# Altium footprint library WS-TATV.PcbLib: 24 footprints (part 1 of 2)
Each footprint in its own frame and in the unit in brackets; x right, y up, seen from the top. Pads: shape width x height; smd on the part's side, far side on the other; paste and mask are expansions set on the pad; w line width, h text height; cw(c..) or ccw(c..) is an arc to the next point about the centre after c.
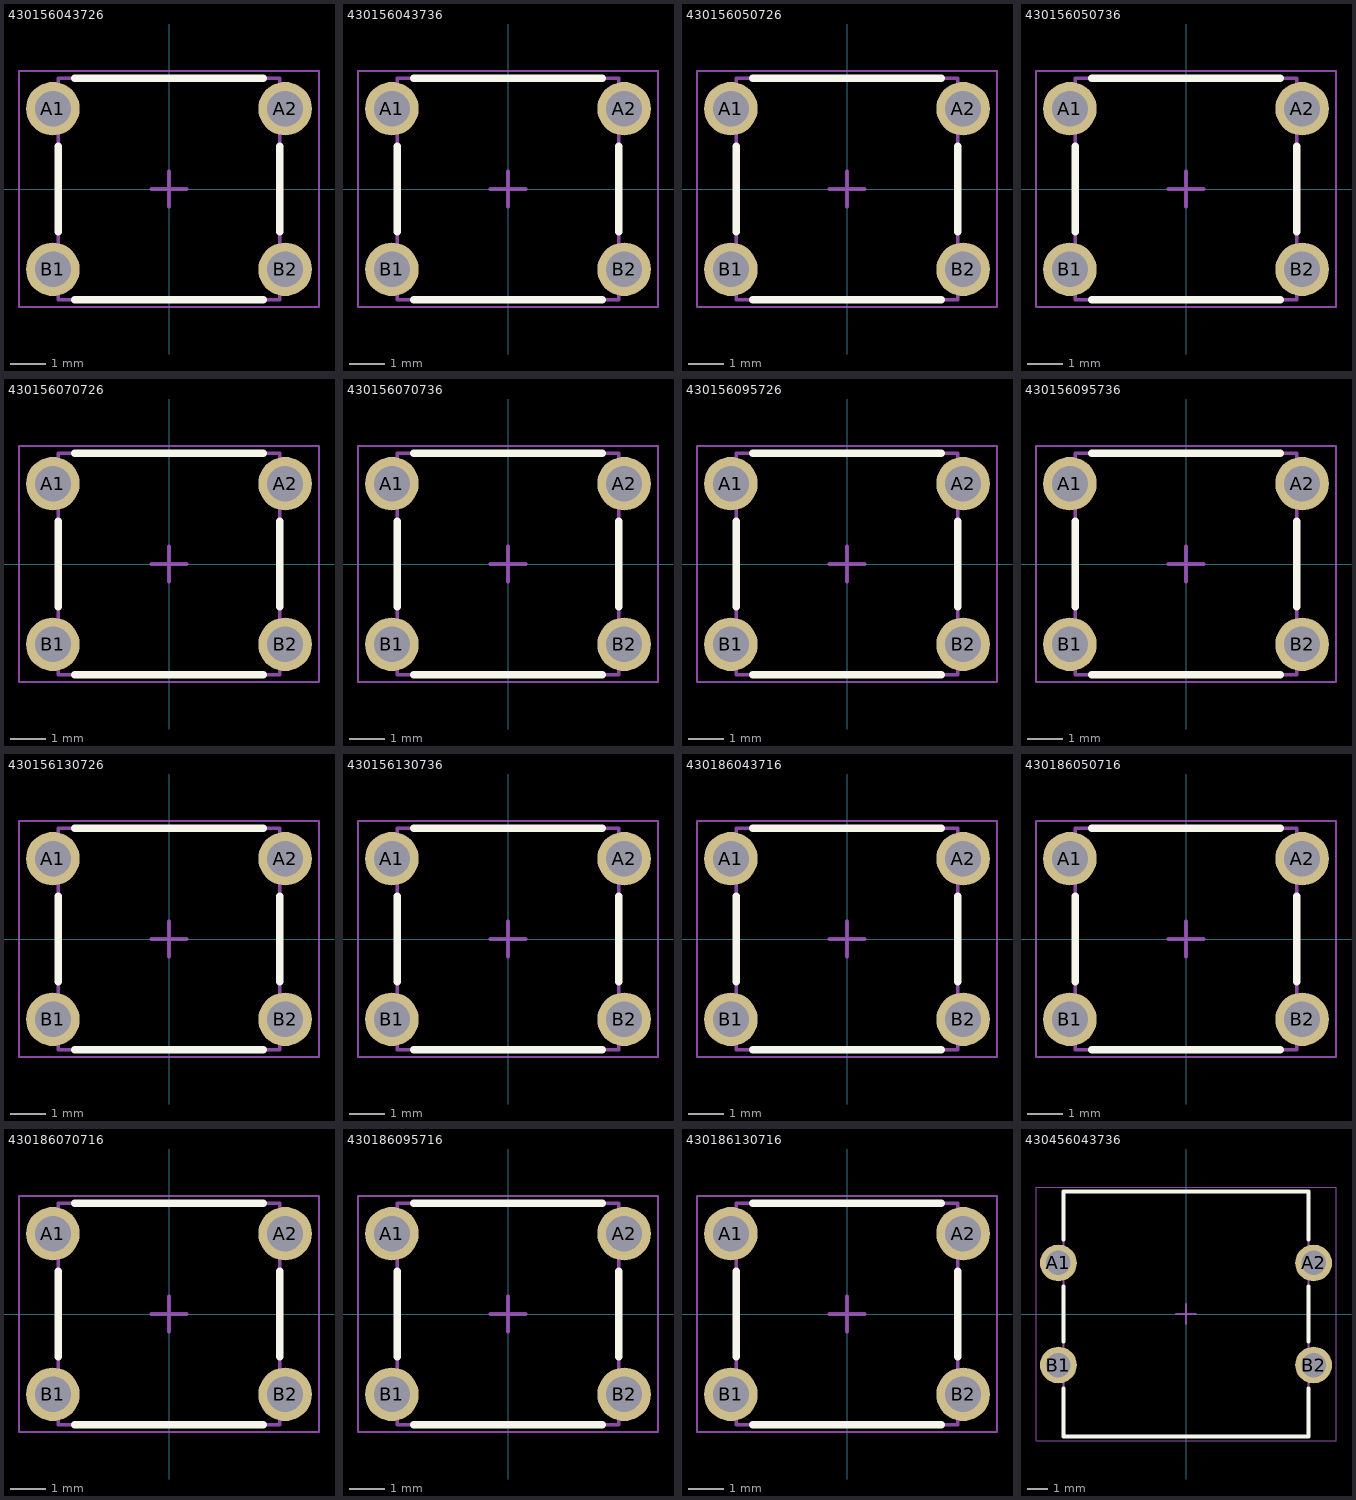
[diagram p0: the footprints below, top view; thin cyan lines are the x and y axes]

## 430156043726 [mm] "6x6mm Tact Switch, THT version"
height 4.3
pads (4):
  round 1.5 hole 1: A1(-3.25,2.25) A2(3.25,2.25) B1(-3.25,-2.25) B2(3.25,-2.25)
Top Overlay:
  lines w0.2: -3.1,-1.2 -3.1,1.2 ; -2.65,-3.1 2.65,-3.1 ; -2.65,3.1 2.65,3.1 ; 3.1,-1.2 3.1,1.2
Top Assembly:
  lines w0.1: -3.1,-3.1 3.1,-3.1 3.1,3.1 -3.1,3.1 -3.1,-3.1
Top Designator:
  text ".Designator" at -3.647,-0.357 h1
Top Courtyard:
  lines w0.05: -4.2,-3.3 -4.2,3.3 4.2,3.3 4.2,-3.3 -4.2,-3.3
Top Component Center:
  lines w0.1: -0.5,0 0.5,0 ; 0,-0.5 0,0.5
3D body "4301x60437x6.stp": height 4.35, standoff -3.45, extent -3.947,-3.1 3.947,3.1

## 430156043736 [mm] "6x6mm Tact Switch, THT version"
height 4.3
pads (4):
  round 1.5 hole 1: A1(-3.25,2.25) A2(3.25,2.25) B1(-3.25,-2.25) B2(3.25,-2.25)
Top Overlay:
  lines w0.2: -3.1,-1.2 -3.1,1.2 ; -2.65,-3.1 2.65,-3.1 ; -2.65,3.1 2.65,3.1 ; 3.1,-1.2 3.1,1.2
Top Assembly:
  lines w0.1: -3.1,-3.1 -3.1,3.1 3.1,3.1 3.1,-3.1 -3.1,-3.1
Top Designator:
  text ".Designator" at -3.647,-0.357 h1
Top Courtyard:
  lines w0.05: -4.2,-3.3 4.2,-3.3 4.2,3.3 -4.2,3.3 -4.2,-3.3
Top Component Center:
  lines w0.1: -0.5,0 0.5,0 ; 0,-0.5 0,0.5
3D body "4301x60437x6.stp": height 4.35, standoff -3.45, extent -3.947,-3.1 3.947,3.1

## 430156050726 [mm] "6x6mm Tact Switch, THT version"
height 5
pads (4):
  round 1.5 hole 1: A1(-3.25,2.25) A2(3.25,2.25) B1(-3.25,-2.25) B2(3.25,-2.25)
Top Overlay:
  lines w0.2: -3.1,-1.2 -3.1,1.2 ; -2.65,-3.1 2.65,-3.1 ; -2.65,3.1 2.65,3.1 ; 3.1,-1.2 3.1,1.2
Top Assembly:
  lines w0.1: -3.1,-3.1 -3.1,3.1 3.1,3.1 3.1,-3.1 -3.1,-3.1
Top Designator:
  text ".Designator" at -3.647,-0.357 h1
Top Courtyard:
  lines w0.05: -4.2,-3.3 4.2,-3.3 4.2,3.3 -4.2,3.3 -4.2,-3.3
Top Component Center:
  lines w0.1: -0.5,0 0.5,0 ; 0,-0.5 0,0.5
3D body "4301x60507x6.stp": height 5.05, standoff -3.45, extent -3.947,-3.1 3.947,3.1

## 430156050736 [mm] "6x6mm Tact Switch, THT version"
height 5
pads (4):
  round 1.5 hole 1: A1(-3.25,2.25) A2(3.25,2.25) B1(-3.25,-2.25) B2(3.25,-2.25)
Top Overlay:
  lines w0.2: -3.1,-1.2 -3.1,1.2 ; -2.65,-3.1 2.65,-3.1 ; -2.65,3.1 2.65,3.1 ; 3.1,-1.2 3.1,1.2
Top Assembly:
  lines w0.1: -3.1,-3.1 3.1,-3.1 3.1,3.1 -3.1,3.1 -3.1,-3.1
Top Designator:
  text ".Designator" at -3.647,-0.357 h1
Top Courtyard:
  lines w0.05: -4.2,-3.3 -4.2,3.3 4.2,3.3 4.2,-3.3 -4.2,-3.3
Top Component Center:
  lines w0.1: -0.5,0 0.5,0 ; 0,-0.5 0,0.5
3D body "4301x60507x6.stp": height 5.05, standoff -3.45, extent -3.947,-3.1 3.947,3.1

## 430156070726 [mm] "6x6mm Tact Switch, THT version"
height 7
pads (4):
  round 1.5 hole 1: A1(-3.25,2.25) A2(3.25,2.25) B1(-3.25,-2.25) B2(3.25,-2.25)
Top Overlay:
  lines w0.2: -3.1,-1.2 -3.1,1.2 ; -2.65,-3.1 2.65,-3.1 ; -2.65,3.1 2.65,3.1 ; 3.1,-1.2 3.1,1.2
Top Assembly:
  lines w0.1: -3.1,-3.1 -3.1,3.1 3.1,3.1 3.1,-3.1 -3.1,-3.1
Top Designator:
  text ".Designator" at -3.647,-0.357 h1
Top Courtyard:
  lines w0.05: -4.2,-3.3 4.2,-3.3 4.2,3.3 -4.2,3.3 -4.2,-3.3
Top Component Center:
  lines w0.1: -0.5,0 0.5,0 ; 0,-0.5 0,0.5
3D body "4301x60707x6.stp": height 7.05, standoff -3.45, extent -3.947,-3.1 3.947,3.1

## 430156070736 [mm] "6x6mm Tact Switch, THT version"
height 7
pads (4):
  round 1.5 hole 1: A1(-3.25,2.25) A2(3.25,2.25) B1(-3.25,-2.25) B2(3.25,-2.25)
Top Overlay:
  lines w0.2: -3.1,-1.2 -3.1,1.2 ; -2.65,-3.1 2.65,-3.1 ; -2.65,3.1 2.65,3.1 ; 3.1,-1.2 3.1,1.2
Top Assembly:
  lines w0.1: -3.1,-3.1 3.1,-3.1 3.1,3.1 -3.1,3.1 -3.1,-3.1
Top Designator:
  text ".Designator" at -3.647,-0.357 h1
Top Courtyard:
  lines w0.05: -4.2,-3.3 -4.2,3.3 4.2,3.3 4.2,-3.3 -4.2,-3.3
Top Component Center:
  lines w0.1: -0.5,0 0.5,0 ; 0,-0.5 0,0.5
3D body "4301x60707x6.stp": height 7.05, standoff -3.45, extent -3.947,-3.1 3.947,3.1

## 430156095726 [mm] "6x6mm Tact Switch, THT version"
height 9.5
pads (4):
  round 1.5 hole 1: A1(-3.25,2.25) A2(3.25,2.25) B1(-3.25,-2.25) B2(3.25,-2.25)
Top Overlay:
  lines w0.2: -3.1,-1.2 -3.1,1.2 ; -2.65,-3.1 2.65,-3.1 ; -2.65,3.1 2.65,3.1 ; 3.1,-1.2 3.1,1.2
Top Assembly:
  lines w0.1: -3.1,-3.1 -3.1,3.1 3.1,3.1 3.1,-3.1 -3.1,-3.1
Top Designator:
  text ".Designator" at -3.647,-0.357 h1
Top Courtyard:
  lines w0.05: -4.2,-3.3 4.2,-3.3 4.2,3.3 -4.2,3.3 -4.2,-3.3
Top Component Center:
  lines w0.1: -0.5,0 0.5,0 ; 0,-0.5 0,0.5
3D body "4301x60957x6.stp": height 9.55, standoff -3.45, extent -3.947,-3.1 3.947,3.1

## 430156095736 [mm] "6x6mm Tact Switch, THT version"
height 9.5
pads (4):
  round 1.5 hole 1: A1(-3.25,2.25) A2(3.25,2.25) B1(-3.25,-2.25) B2(3.25,-2.25)
Top Overlay:
  lines w0.2: -3.1,-1.2 -3.1,1.2 ; -2.65,-3.1 2.65,-3.1 ; -2.65,3.1 2.65,3.1 ; 3.1,-1.2 3.1,1.2
Top Assembly:
  lines w0.1: -3.1,-3.1 -3.1,3.1 3.1,3.1 3.1,-3.1 -3.1,-3.1
Top Designator:
  text ".Designator" at -3.647,-0.357 h1
Top Courtyard:
  lines w0.05: -4.2,-3.3 4.2,-3.3 4.2,3.3 -4.2,3.3 -4.2,-3.3
Top Component Center:
  lines w0.1: -0.5,0 0.5,0 ; 0,-0.5 0,0.5
3D body "4301x60957x6.stp": height 9.55, standoff -3.45, extent -3.947,-3.1 3.947,3.1

## 430156130726 [mm] "6x6mm Tact Switch, THT version"
height 4.3
pads (4):
  round 1.5 hole 1: A1(-3.25,2.25) A2(3.25,2.25) B1(-3.25,-2.25) B2(3.25,-2.25)
Top Overlay:
  lines w0.2: -3.1,-1.2 -3.1,1.2 ; -2.65,-3.1 2.65,-3.1 ; -2.65,3.1 2.65,3.1 ; 3.1,-1.2 3.1,1.2
Top Assembly:
  lines w0.1: -3.1,-3.1 3.1,-3.1 3.1,3.1 -3.1,3.1 -3.1,-3.1
Top Designator:
  text ".Designator" at -3.647,-0.357 h1
Top Courtyard:
  lines w0.05: -4.2,-3.3 -4.2,3.3 4.2,3.3 4.2,-3.3 -4.2,-3.3
Top Component Center:
  lines w0.1: -0.5,0 0.5,0 ; 0,-0.5 0,0.5
3D body "4301x60437x6.stp": height 4.35, standoff -3.45, extent -3.95,-3.1 3.95,3.1

## 430156130736 [mm] "6x6mm Tact Switch, THT version"
height 4.3
pads (4):
  round 1.5 hole 1: A1(-3.25,2.25) A2(3.25,2.25) B1(-3.25,-2.25) B2(3.25,-2.25)
Top Overlay:
  lines w0.2: -3.1,-1.2 -3.1,1.2 ; -2.65,-3.1 2.65,-3.1 ; -2.65,3.1 2.65,3.1 ; 3.1,-1.2 3.1,1.2
Top Assembly:
  lines w0.1: -3.1,-3.1 3.1,-3.1 3.1,3.1 -3.1,3.1 -3.1,-3.1
Top Designator:
  text ".Designator" at -3.647,-0.357 h1
Top Courtyard:
  lines w0.05: -4.2,-3.3 -4.2,3.3 4.2,3.3 4.2,-3.3 -4.2,-3.3
Top Component Center:
  lines w0.1: -0.5,0 0.5,0 ; 0,-0.5 0,0.5
3D body "4301x60437x6.stp": height 4.35, standoff -3.45, extent -3.95,-3.1 3.95,3.1

## 430186043716 [mm] "6x6mm Tact Switch, THT version"
height 4.3
pads (4):
  round 1.5 hole 1: A1(-3.25,2.25) A2(3.25,2.25) B1(-3.25,-2.25) B2(3.25,-2.25)
Top Overlay:
  lines w0.2: -3.1,-1.2 -3.1,1.2 ; -2.65,-3.1 2.65,-3.1 ; -2.65,3.1 2.65,3.1 ; 3.1,-1.2 3.1,1.2
Top Assembly:
  lines w0.1: -3.1,-3.1 3.1,-3.1 3.1,3.1 -3.1,3.1 -3.1,-3.1
Top Designator:
  text ".Designator" at -3.647,-0.357 h1
Top Courtyard:
  lines w0.05: -4.2,-3.3 -4.2,3.3 4.2,3.3 4.2,-3.3 -4.2,-3.3
Top Component Center:
  lines w0.1: -0.5,0 0.5,0 ; 0,-0.5 0,0.5
3D body "4301x60437x6.stp": height 4.35, standoff -3.45, extent -3.947,-3.1 3.947,3.1

## 430186050716 [mm] "6x6mm Tact Switch, THT version"
height 5
pads (4):
  round 1.5 hole 1: A1(-3.25,2.25) A2(3.25,2.25) B1(-3.25,-2.25) B2(3.25,-2.25)
Top Overlay:
  lines w0.2: -3.1,-1.2 -3.1,1.2 ; -2.65,-3.1 2.65,-3.1 ; -2.65,3.1 2.65,3.1 ; 3.1,-1.2 3.1,1.2
Top Assembly:
  lines w0.1: -3.1,-3.1 3.1,-3.1 3.1,3.1 -3.1,3.1 -3.1,-3.1
Top Designator:
  text ".Designator" at -3.647,-0.357 h1
Top Courtyard:
  lines w0.05: -4.2,-3.3 -4.2,3.3 4.2,3.3 4.2,-3.3 -4.2,-3.3
Top Component Center:
  lines w0.1: -0.5,0 0.5,0 ; 0,-0.5 0,0.5
3D body "4301x60507x6.stp": height 5.05, standoff -3.45, extent -3.947,-3.1 3.947,3.1

## 430186070716 [mm] "6x6mm Tact Switch, THT version"
height 7
pads (4):
  round 1.5 hole 1: A1(-3.25,2.25) A2(3.25,2.25) B1(-3.25,-2.25) B2(3.25,-2.25)
Top Overlay:
  lines w0.2: -3.1,-1.2 -3.1,1.2 ; -2.65,-3.1 2.65,-3.1 ; -2.65,3.1 2.65,3.1 ; 3.1,-1.2 3.1,1.2
Top Assembly:
  lines w0.1: -3.1,-3.1 3.1,-3.1 3.1,3.1 -3.1,3.1 -3.1,-3.1
Top Designator:
  text ".Designator" at -3.647,-0.357 h1
Top Courtyard:
  lines w0.05: -4.2,-3.3 -4.2,3.3 4.2,3.3 4.2,-3.3 -4.2,-3.3
Top Component Center:
  lines w0.1: -0.5,0 0.5,0 ; 0,-0.5 0,0.5
3D body "4301x60707x6.stp": height 7.05, standoff -3.45, extent -3.947,-3.1 3.947,3.1

## 430186095716 [mm] "6x6mm Tact Switch, THT version"
height 9.5
pads (4):
  round 1.5 hole 1: A1(-3.25,2.25) A2(3.25,2.25) B1(-3.25,-2.25) B2(3.25,-2.25)
Top Overlay:
  lines w0.2: -3.1,-1.2 -3.1,1.2 ; -2.65,-3.1 2.65,-3.1 ; -2.65,3.1 2.65,3.1 ; 3.1,-1.2 3.1,1.2
Top Assembly:
  lines w0.1: -3.1,-3.1 3.1,-3.1 3.1,3.1 -3.1,3.1 -3.1,-3.1
Top Designator:
  text ".Designator" at -3.647,-0.357 h1
Top Courtyard:
  lines w0.05: -4.2,-3.3 -4.2,3.3 4.2,3.3 4.2,-3.3 -4.2,-3.3
Top Component Center:
  lines w0.1: -0.5,0 0.5,0 ; 0,-0.5 0,0.5
3D body "4301x60957x6.stp": height 9.55, standoff -3.45, extent -3.947,-3.1 3.947,3.1

## 430186130716 [mm] "6x6mm Tact Switch, THT version"
height 4.3
pads (4):
  round 1.5 hole 1: A1(-3.25,2.25) A2(3.25,2.25) B1(-3.25,-2.25) B2(3.25,-2.25)
Top Overlay:
  lines w0.2: -3.1,-1.2 -3.1,1.2 ; -2.65,-3.1 2.65,-3.1 ; -2.65,3.1 2.65,3.1 ; 3.1,-1.2 3.1,1.2
Top Assembly:
  lines w0.1: -3.1,-3.1 -3.1,3.1 3.1,3.1 3.1,-3.1 -3.1,-3.1
Top Designator:
  text ".Designator" at -3.647,-0.357 h1
Top Courtyard:
  lines w0.05: -4.2,-3.3 4.2,-3.3 4.2,3.3 -4.2,3.3 -4.2,-3.3
Top Component Center:
  lines w0.1: -0.5,0 0.5,0 ; 0,-0.5 0,0.5
3D body "4301x60437x6.stp": height 4.35, standoff -3.45, extent -3.95,-3.1 3.95,3.1

## 430456043736 [mm] "12x12mm washable Tact Switch, THT version"
height 4.3
pads (4):
  round 1.8 hole 1.2: A1(-6.25,2.5) A2(6.25,2.5) B1(-6.25,-2.5) B2(6.25,-2.5)
Top Overlay:
  lines w0.2: -6,-3.65 -6,-6 6,-6 6,-3.65 ; -6,-1.35 -6,1.35 ; -6,3.65 -6,6 6,6 6,3.65 ; 6,-1.35 6,1.35
Top Assembly:
  lines w0.1: -6,-6 -6,6 6,6 6,-6 -6,-6
Top Designator:
  text ".Designator" at -3.647,-0.357 h1
Top Courtyard:
  lines w0.05: -7.35,-6.2 7.35,-6.2 7.35,6.2 -7.35,6.2 -7.35,-6.2
Top Component Center:
  lines w0.1: -0.5,0 0.5,0 ; 0,-0.5 0,0.5
3D body "4304x60437x6.stp": height 4.35, standoff -3.45, extent -6.985,-6 6.986,6